# EAGLE library part OV7670 (library me433_2019_camera)
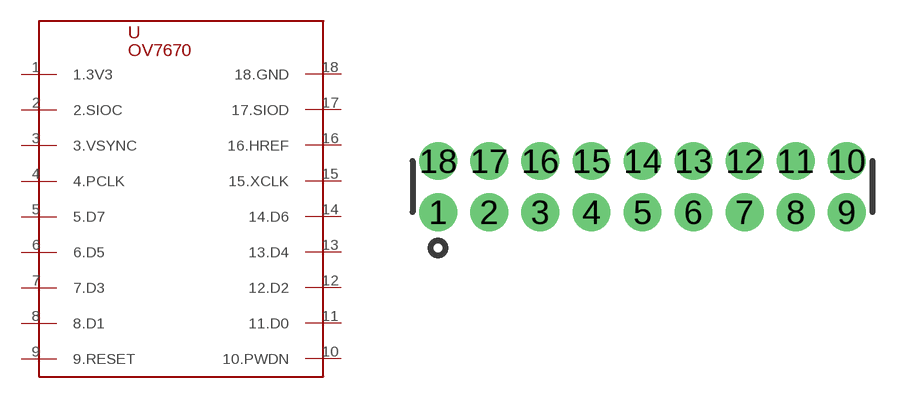
[diagram p0: symbol with the pads of 2X09; footprint 2X09]

Designator prefix -

## OV7670  [2X09]
1  1.3V3
2  2.SIOC
3  3.VSYNC
4  4.PCLK
5  5.D7
6  6.D5
7  7.D3
8  8.D1
9  9.RESET
10  10.PWDN
11  11.D0
12  12.D2
13  13.D4
14  14.D6
15  15.XCLK
16  16.HREF
17  17.SIOD
18  18.GND

## Footprint 2X09 (pad centres in mm)
drill 1.016 pad 1.88: 1 0,0; 2 2.54,0; 3 5.08,0; 4 7.62,0; 5 10.16,0; 6 12.7,0; 7 15.24,0; 8 17.78,0; 9 20.32,0; 10 20.32,2.54; 11 17.78,2.54; 12 15.24,2.54; 13 12.7,2.54; 14 10.16,2.54; 15 7.62,2.54; 16 5.08,2.54; 17 2.54,2.54; 18 0,2.54